# Altium schematic symbol library PA2512FKE7W0R01E.SchLib: 1 symbol
Pins are listed as number, name and electrical type; pins without a type are passive.

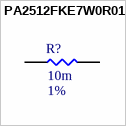
[diagram p0: symbol PA2512FKE7W0R01E]

## PA2512FKE7W0R01E
designator R?  Resistance: 10m  Tolerance: 1%  (hidden comment: PA2512FKE7W0R01E)
Current Sense Resistors - SMD 0.01 ohm 1% 50ppm AEC-Q200 /; MFR: Yageo; Power Rating: 2W; PN: PA2512FKE7W0R01E; Footprint: RES2512; Package: 2512; ComponentLink1Description: Datasheet; ComponentLink1URL: https://www.mouser.ca/datasheet/2/447/PYu_PA_E_51_RoHS_10-1947930.pdf; Supplier 1: Digi-Key; Supplier Part Number 1: YAG6093CT-ND
footprint RES_2512
pins: 1, 2